# Altium footprint library PcbLib1.PcbLib: 29 footprints (part 2 of 2)
Each footprint in its own frame and in the unit in brackets; x right, y up, seen from the top. Pads: shape width x height; smd on the part's side, far side on the other; paste and mask are expansions set on the pad; w line width, h text height; cw(c..) or ccw(c..) is an arc to the next point about the centre after c.
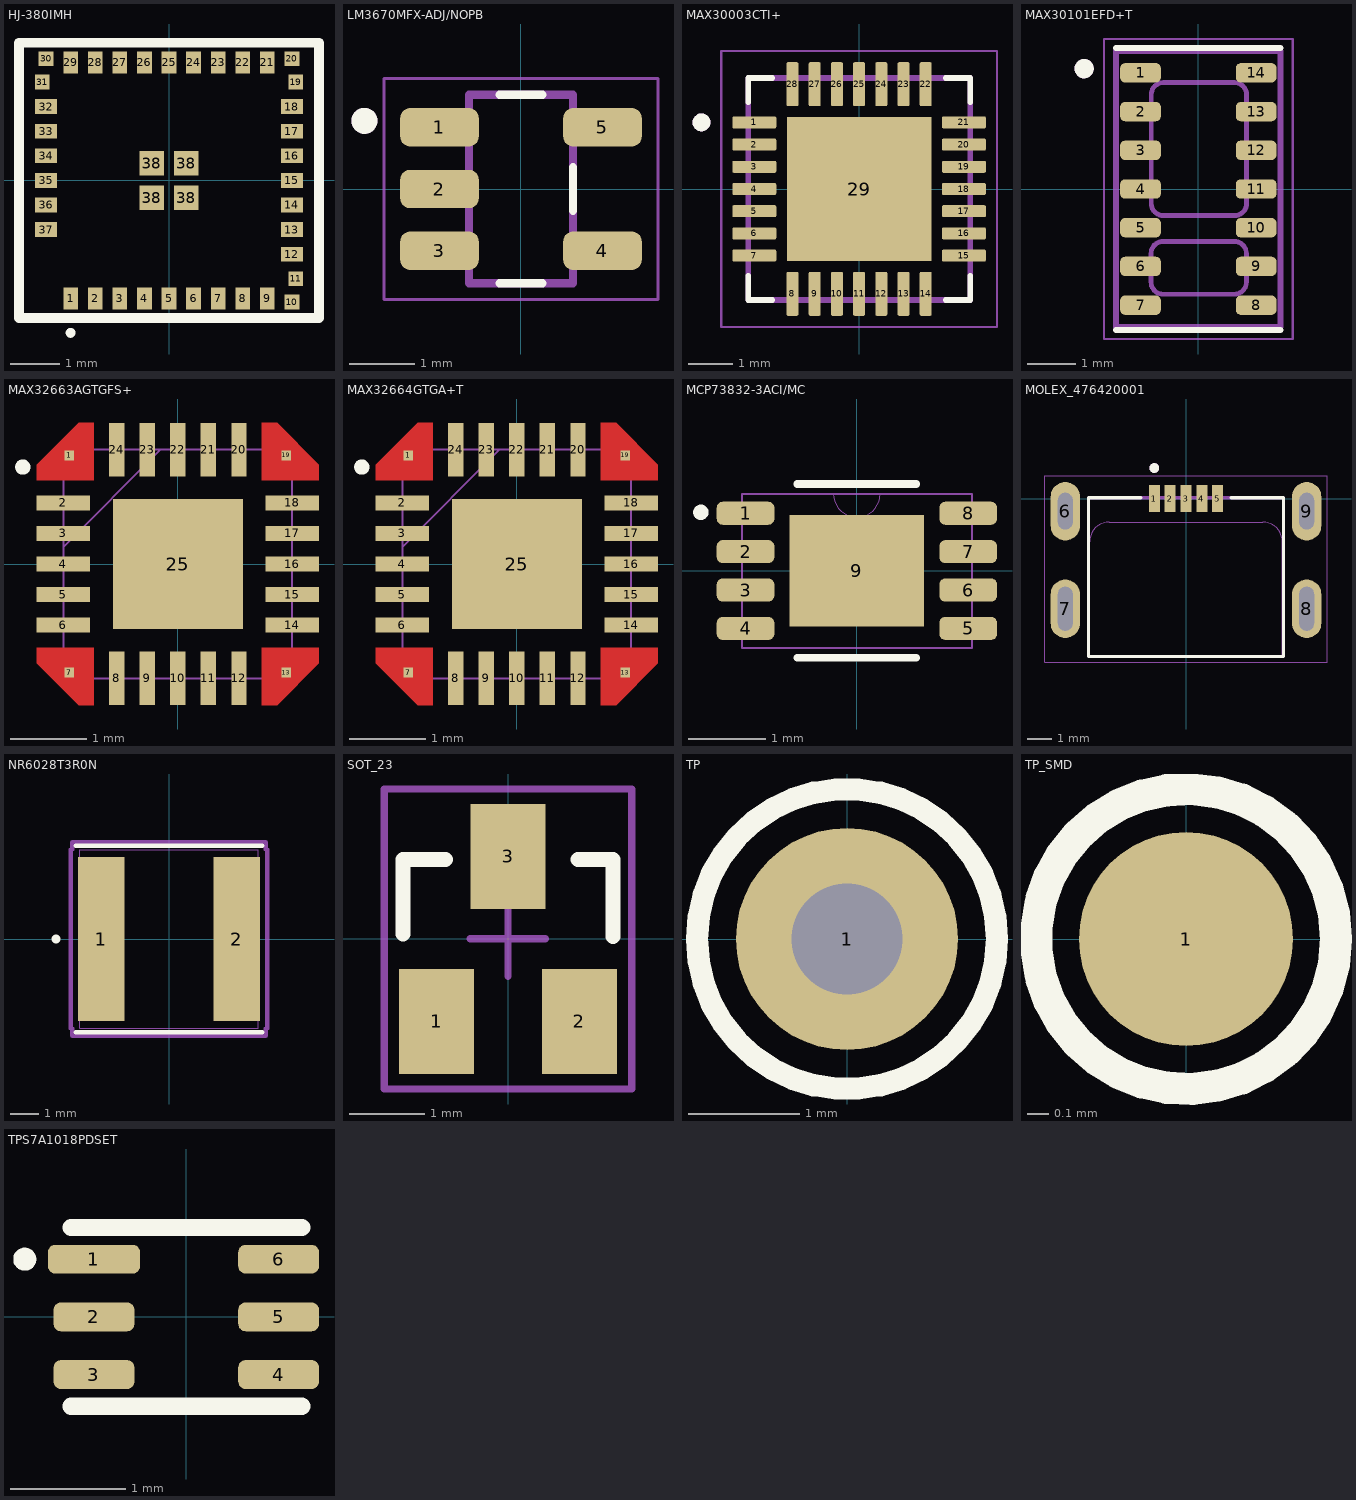
[diagram p1: the footprints below, top view; thin cyan lines are the x and y axes]

## HJ-380IMH [mm]
pads (41):
  rect 0.3x0.45 smd paste+0 mask+0.05: 1(-2,-2.4) 2(-1.5,-2.4) 3(-1,-2.4) 4(-0.5,-2.4) 5(0,-2.4) 6(0.5,-2.4) 7(1,-2.4) 8(1.5,-2.4) 9(2,-2.4) 21(2,2.4) 22(1.5,2.4) 23(1,2.4) 24(0.5,2.4) 25(0,2.4) 26(-0.5,2.4) 27(-1,2.4) 28(-1.5,2.4) 29(-2,2.4)
  rect 0.3x0.3 smd paste+0 mask+0.05: 10(2.5,-2.475) 11(2.575,-2) 19(2.575,2) 20(2.5,2.475) 30(-2.5,2.475) 31(-2.575,2)
  rect 0.45x0.3 smd paste+0 mask+0.05: 12(2.5,-1.5) 13(2.5,-1) 14(2.5,-0.5) 15(2.5,0) 16(2.5,0.5) 17(2.5,1) 18(2.5,1.5) 32(-2.5,1.5) 33(-2.5,1) 34(-2.5,0.5) 35(-2.5,0) 36(-2.5,-0.5) 37(-2.5,-1)
  rect 0.5x0.5 smd paste+0 mask+0.05: 38(-0.35,-0.35) 38(-0.35,0.35) 38(0.35,-0.35) 38(0.35,0.35)
Top Overlay:
  circle w0.1: c-2,-3.1 r0.05
  lines w0.2: -3.05,-2.8 -3.05,2.8 0,2.8 3.05,2.8 3.05,-2.8 -3.05,-2.8

## LM3670MFX-ADJ/NOPB [mm]
pads (5):
  rrect50% 1.21x0.59 smd: 1(-1.255,0.95) 2(-1.255,0) 3(-1.255,-0.95) 4(1.255,-0.95) 5(1.255,0.95)
Top Overlay:
  circle w0.2: c-2.41,1.05 r0.1
  lines w0.127: -0.33,-1.45 0.33,-1.45 ; -0.33,1.45 0.33,1.45 ; 0.8,-0.335 0.8,0.335
Mechanical 13:
  circle w0.2: c-2.41,1.05 r0.1
  lines w0.127: -0.8,-1.45 0.8,-1.45 0.8,1.45 -0.8,1.45 -0.8,-1.45
Mechanical 15:
  lines w0.05: -2.11,-1.7 -2.11,1.7 2.11,1.7 2.11,-1.7 -2.11,-1.7
3D body "LM3670MFX.STEP": height 1.45, standoff 0, extent -1.4,-1.45 1.4,1.45

## MAX30003CTI+ [mm]
pads (29):
  rrect25% 0.99x0.27 smd: 1(-2.36,1.5) 2(-2.36,1) 3(-2.36,0.5) 4(-2.36,0) 5(-2.36,-0.5) 6(-2.36,-1) 7(-2.36,-1.5) 15(2.36,-1.5) 16(2.36,-1) 17(2.36,-0.5) 18(2.36,0) 19(2.36,0.5) 20(2.36,1) 21(2.36,1.5)
  rrect25% 0.27x0.99 smd: 8(-1.5,-2.36) 9(-1,-2.36) 10(-0.5,-2.36) 11(0,-2.36) 12(0.5,-2.36) 13(1,-2.36) 14(1.5,-2.36) 22(1.5,2.36) 23(1,2.36) 24(0.5,2.36) 25(0,2.36) 26(-0.5,2.36) 27(-1,2.36) 28(-1.5,2.36)
  rect 3.25x3.25 smd paste-3: 29(0,0)
Top Overlay:
  circle w0.2: c-3.55,1.5 r0.1
  lines w0.127: -2.5,-1.955 -2.5,-2.5 -1.955,-2.5 ; -2.5,1.955 -2.5,2.5 -1.955,2.5 ; 1.955,-2.5 2.5,-2.5 2.5,-1.955 ; 1.955,2.5 2.5,2.5 2.5,1.955
Top Paste:
  region: 1.03,-1.03 -1.03,-1.03 -1.03,1.03 1.03,1.03
Mechanical 13:
  circle w0.2: c-3.55,1.5 r0.1
  lines w0.127: -2.5,-2.5 2.5,-2.5 2.5,2.5 -2.5,2.5 -2.5,-2.5
Mechanical 15:
  lines w0.05: -3.105,-3.105 3.105,-3.105 3.105,3.105 -3.105,3.105 -3.105,-3.105
3D body "MAX30003CTI+.STEP": height 0.8, standoff 0, extent -2.5,-2.5 2.5,2.5

## MAX30101EFD+T [mm]
pads (14):
  rrect50% 0.84x0.4 smd: 1(-1.195,2.4) 2(-1.195,1.6) 3(-1.195,0.8) 4(-1.195,0) 5(-1.195,-0.8) 6(-1.195,-1.6) 7(-1.195,-2.4) 8(1.195,-2.4) 9(1.195,-1.6) 10(1.195,-0.8) 11(1.195,0) 12(1.195,0.8) 13(1.195,1.6) 14(1.195,2.4)
Top Overlay:
  circle w0.2: c-2.361,2.488 r0.1
  lines w0.127: -1.7,-2.914 1.7,-2.914 ; -1.7,2.914 1.7,2.914
Mechanical 13:
  circle w0.2: c-2.361,2.488 r0.1
  lines w0.1: -0.978,-1.926 ccw(c-0.728,-1.926) -0.728,-2.176 0.742,-2.176 ccw(c0.742,-1.926) 0.992,-1.926 0.992,-1.332 ccw(c0.742,-1.332) 0.742,-1.082 -0.728,-1.082 ccw(c-0.728,-1.332) -0.978,-1.332 -0.978,-1.926 ; -0.973,-0.3 ccw(c-0.723,-0.3) -0.723,-0.55 0.747,-0.55 ccw(c0.747,-0.3) 0.997,-0.3 0.997,1.95 ccw(c0.747,1.95) 0.747,2.2 -0.723,2.2 ccw(c-0.723,1.95) -0.973,1.95 -0.973,-0.3
  lines w0.127: -1.7,-2.85 1.7,-2.85 1.7,2.85 -1.7,2.85 -1.7,-2.85
Mechanical 15:
  lines w0.05: -1.95,-3.1 1.95,-3.1 1.95,3.1 -1.95,3.1 -1.95,-3.1
3D body "MAX30101EFD+T.STEP": height 1.65, standoff 0, extent -1.65,-2.8 1.65,2.8

## MAX32663AGTGFS+ [mm]
pads (25):
  rect 0.127x0.127 smd: 1(-1.422,1.422) 7(-1.422,-1.422) 13(1.422,-1.422) 19(1.422,1.422)
  rect 0.7x0.2 smd paste+0 mask+0: 2(-1.5,0.8) 3(-1.5,0.4) 4(-1.5,0) 5(-1.5,-0.4) 6(-1.5,-0.8) 14(1.5,-0.8) 15(1.5,-0.4) 16(1.5,0) 17(1.5,0.4) 18(1.5,0.8)
  rect 0.2x0.7 smd paste+0 mask+0: 8(-0.8,-1.5) 9(-0.4,-1.5) 10(0,-1.5) 11(0.4,-1.5) 12(0.8,-1.5) 20(0.8,1.5) 21(0.4,1.5) 22(0,1.5) 23(-0.4,1.5) 24(-0.8,1.5)
  rect 1.702x1.702 smd paste+0 mask+0: 25(0,0)
Top Layer:
  region: -1.1,-1.1 -1.85,-1.1 -1.85,-1.3 -1.3,-1.85 -1.1,-1.85
  region: 1.1,-1.1 1.1,-1.85 1.3,-1.85 1.85,-1.3 1.85,-1.1
  region: -1.1,1.1 -1.1,1.85 -1.3,1.85 -1.85,1.3 -1.85,1.1
  region: 1.1,1.1 1.85,1.1 1.85,1.3 1.3,1.85 1.1,1.85
Top Overlay:
  circle w0.1: c-2.032,1.27 r0.05
Top Paste:
  region: -1.1,1.1 -1.1,1.85 -1.3,1.85 -1.85,1.3 -1.85,1.1
  region: 1.1,1.1 1.85,1.1 1.85,1.3 1.3,1.85 1.1,1.85
  region: 1.1,-1.1 1.1,-1.85 1.3,-1.85 1.85,-1.3 1.85,-1.1
  region: -1.1,-1.1 -1.85,-1.1 -1.85,-1.3 -1.3,-1.85 -1.1,-1.85
Top Solder:
  region: -1.1,1.1 -1.1,1.85 -1.3,1.85 -1.85,1.3 -1.85,1.1
  region: 1.1,1.1 1.85,1.1 1.85,1.3 1.3,1.85 1.1,1.85
  region: 1.1,-1.1 1.1,-1.85 1.3,-1.85 1.85,-1.3 1.85,-1.1
  region: -1.1,-1.1 -1.85,-1.1 -1.85,-1.3 -1.3,-1.85 -1.1,-1.85
Mechanical 13:
  lines w0.025: -1.499,0.229 -0.229,1.499 ; -1.499,-1.499 1.499,-1.499 1.499,1.499 -1.499,1.499 -1.499,-1.499
3D body: height 0.25, standoff 0, extent 0,0 0.254,0.254
3D body "MAXIM_90-100089.step": height 0.8, standoff 0, extent -1.55,-1.55 1.55,1.55

## MAX32664GTGA+T [mm]
pads (25):
  rect 0.127x0.127 smd: 1(-1.422,1.422) 7(-1.422,-1.422) 13(1.422,-1.422) 19(1.422,1.422)
  rect 0.7x0.2 smd paste+0 mask+0: 2(-1.5,0.8) 3(-1.5,0.4) 4(-1.5,0) 5(-1.5,-0.4) 6(-1.5,-0.8) 14(1.5,-0.8) 15(1.5,-0.4) 16(1.5,0) 17(1.5,0.4) 18(1.5,0.8)
  rect 0.2x0.7 smd paste+0 mask+0: 8(-0.8,-1.5) 9(-0.4,-1.5) 10(0,-1.5) 11(0.4,-1.5) 12(0.8,-1.5) 20(0.8,1.5) 21(0.4,1.5) 22(0,1.5) 23(-0.4,1.5) 24(-0.8,1.5)
  rect 1.702x1.702 smd paste+0 mask+0: 25(0,0)
Top Layer:
  region: -1.1,-1.1 -1.85,-1.1 -1.85,-1.3 -1.3,-1.85 -1.1,-1.85
  region: 1.1,-1.1 1.1,-1.85 1.3,-1.85 1.85,-1.3 1.85,-1.1
  region: -1.1,1.1 -1.1,1.85 -1.3,1.85 -1.85,1.3 -1.85,1.1
  region: 1.1,1.1 1.85,1.1 1.85,1.3 1.3,1.85 1.1,1.85
Top Overlay:
  circle w0.1: c-2.032,1.27 r0.05
Top Paste:
  region: -1.1,1.1 -1.1,1.85 -1.3,1.85 -1.85,1.3 -1.85,1.1
  region: 1.1,1.1 1.85,1.1 1.85,1.3 1.3,1.85 1.1,1.85
  region: 1.1,-1.1 1.1,-1.85 1.3,-1.85 1.85,-1.3 1.85,-1.1
  region: -1.1,-1.1 -1.85,-1.1 -1.85,-1.3 -1.3,-1.85 -1.1,-1.85
Top Solder:
  region: -1.1,1.1 -1.1,1.85 -1.3,1.85 -1.85,1.3 -1.85,1.1
  region: 1.1,1.1 1.85,1.1 1.85,1.3 1.3,1.85 1.1,1.85
  region: 1.1,-1.1 1.1,-1.85 1.3,-1.85 1.85,-1.3 1.85,-1.1
  region: -1.1,-1.1 -1.85,-1.1 -1.85,-1.3 -1.3,-1.85 -1.1,-1.85
Mechanical 13:
  lines w0.025: -1.499,0.229 -0.229,1.499 ; -1.499,-1.499 1.499,-1.499 1.499,1.499 -1.499,1.499 -1.499,-1.499
3D body: height 0.25, standoff 0, extent 0,0 0.254,0.254
3D body "MAXIM_90-100089.step": height 0.8, standoff 0, extent -1.55,-1.55 1.55,1.55

## MCP73832-3ACI/MC [mm]
pads (9):
  rrect50% 0.75x0.3 smd paste+0 mask+0.05: 1(-1.45,0.75) 2(-1.45,0.25) 3(-1.45,-0.25) 4(-1.45,-0.75) 5(1.45,-0.75) 6(1.45,-0.25) 7(1.45,0.25) 8(1.45,0.75)
  rect 1.75x1.45 smd paste+0 mask+0.05: 9(0,0)
Top Overlay:
  circle w0.1: c-2.032,0.762 r0.05
  lines w0.1: -0.774,-1.13 0.774,-1.13 ; -0.774,1.13 0.774,1.13
Mechanical 13:
  lines w0: -0.305,1.003 ccw(c0,1.003) 0.305,1.003
  lines w0.025: -1.499,-1.003 1.499,-1.003 1.499,1.003 -1.499,1.003 -1.499,-1.003
3D body "DFN8_2x3MC_MCH.step": height 0.94, standoff 0, extent -1.499,-1.003 1.499,1.003

## MOLEX_476420001 [mm]
pads (9):
  rect 0.45x1.1 smd: 1(-1.3,0) 2(-0.65,0) 3(0,0) 4(0.65,0) 5(1.3,0)
  oval 1.2x2.4 hole 0.6 slot 1.5 at 90 deg: 6(-4.95,-0.52) 9(4.95,-0.52)
  oval 1.2x2.4 hole 0.6 slot 1.8 at 90 deg: 7(-4.95,-4.52) 8(4.95,-4.52)
Top Overlay:
  circle w0.2: c-1.3,1.25 r0.1
  lines w0.127: -1.84,0.03 -4,0.03 -4,-6.47 4,-6.47 4,0.03 1.84,0.03
Mechanical 1:
  lines w0: -3.95,-6.47 3.95,-6.47 3.95,-1.77 ccw(c3.15,-1.77) 3.15,-0.97 -3.15,-0.97 ccw(c-3.15,-1.77) -3.95,-1.77 -3.95,-6.47
Mechanical 13:
  circle w0.2: c-1.3,1.25 r0.1
  lines w0.127: -4,-6.47 -4,0.03 4,0.03 4,-6.47 -4,-6.47
Mechanical 15:
  lines w0.05: -5.8,-6.72 -5.8,0.93 5.8,0.93 5.8,-6.72 -5.8,-6.72
3D body "476420001.stp": height 1.81, standoff -1.17, extent -5.1,-6.83 5.1,0.4

## NR6028T3R0N [mil]
pads (2):
  rect 63x224 smd paste+0: 1(-92.5,0) 2(92.5,0)
Top Overlay:
  circle w6: c-154,0 r3
  lines w6: -127,-127 127,-127 ; -127,127 127,127
Mechanical 13:
  circle w0: c-119,0 r3
  lines w1: -122,-122 122,-122 122,122 -122,122 -122,-122
Mechanical 15:
  lines w6: -134,-122 -134,122 -132,122 -132,132 132,132 132,122 134,122 134,-122 132,-122 132,-132 -132,-132 -132,-122 -134,-122
3D body "IND_TAIYO_NR6028_TAY.step": height 110, standoff 0, extent -122.01,-122.09 122.01,122.09

## SOT_23 [mm]
height 0.3
pads (3):
  rect 1x1.4 smd: 1(-0.95,-1.1) 2(0.95,-1.1) 3(0,1.1)
Top Overlay:
  lines w0.2: -1.397,0.067 -1.397,1.059 -0.833,1.059 ; 0.935,1.059 1.397,1.059 1.397,0.035
Mechanical 5:
  lines w0.1: -1.65,-2 -1.65,2 1.65,2 1.65,-2 -1.65,-2
Mechanical 15:
  lines w0.1: -0.5,0 0.5,0 ; 0,-0.5 0,0.5 ; -1.65,-2 1.65,-2 1.65,2 -1.65,2 -1.65,-2
3D body "SOT 23.STEP": height 1.1, standoff 0, extent -1.45,-1.15 1.45,1.15

## TP [mm]
height 0.71
pads (1):
  round 2 hole 1: 1(0,0)
Top Overlay:
  circle w0.2: c0,0 r1.35

## TP_SMD [mm]
height 0.6
pads (1):
  round 1 smd: 1(0,0)
Top Overlay:
  circle w0.15: c0,0 r0.7

## TPS7A1018PDSET [mm]
pads (6):
  rrect50% 0.8x0.25 smd paste+0 mask+0.03: 1(-0.8,0.5)
  rrect50% 0.7x0.25 smd paste+0 mask+0.03: 2(-0.8,0) 3(-0.8,-0.5) 4(0.8,-0.5) 5(0.8,0) 6(0.8,0.5)
Top Overlay:
  circle w0.1: c-1.4,0.5 r0.05
  lines w0.15: -1,-0.775 1,-0.775 ; -1,0.775 1,0.775